# Altium footprint library SOP.PcbLib: 14 footprints
Each footprint in its own frame and in the unit in brackets; x right, y up, seen from the top. Pads: shape width x height; smd on the part's side, far side on the other; paste and mask are expansions set on the pad; w line width, h text height; cw(c..) or ccw(c..) is an arc to the next point about the centre after c.
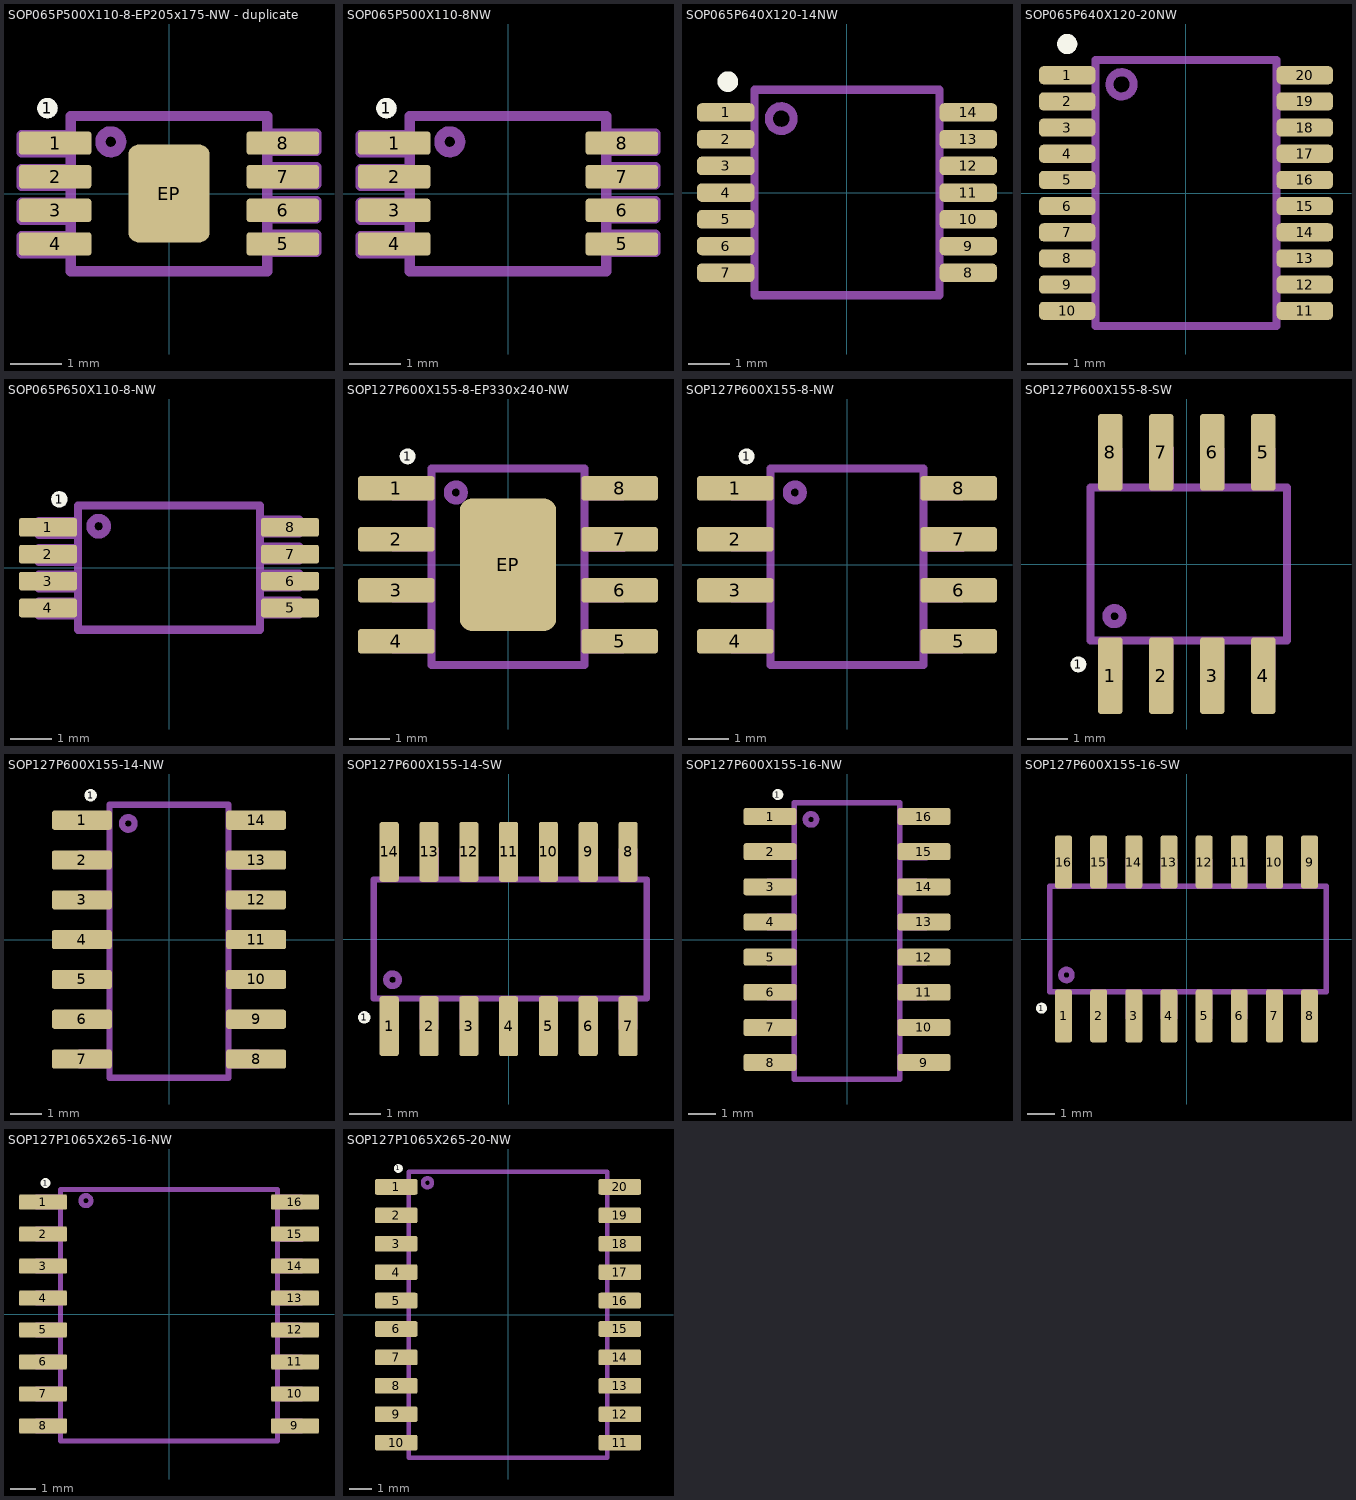
[diagram p0: the footprints below, top view; thin cyan lines are the x and y axes]

## SOP065P500X110-8-EP205x175-NW - duplicate [mm] "PHDSO-G8-I065, JEDEC  MO-187, VSSOP8 with Exposed Pad"
height 1.55
pads (10):
  round 0.4 on Top Overlay: 1(-2.35,1.65)
  rrect25% 1.4x0.45 smd: 1(-2.2,0.975) 2(-2.2,0.325) 3(-2.2,-0.325) 4(-2.2,-0.975) 5(2.2,-0.975) 6(2.2,-0.325) 7(2.2,0.325) 8(2.2,0.975)
  rrect25% 1.57x1.89 smd: EP(0,0)
Top Assembly:
  circle w0.2: c-1.125,1 r0.2
  lines w0.2: -1.9,-1.155 -2.85,-1.155 -2.85,-0.825 -1.9,-0.825 ; -1.9,-0.505 -2.85,-0.505 -2.85,-0.175 -1.9,-0.175 ; -1.9,0.145 -2.85,0.145 -2.85,0.475 -1.9,0.475 ; -1.9,0.795 -2.85,0.795 -2.85,1.125 -1.9,1.125 ; 1.9,-1.125 2.85,-1.125 2.85,-0.795 1.9,-0.795 ; 1.9,-0.475 2.85,-0.475 2.85,-0.145 1.9,-0.145 ; 1.9,0.175 2.85,0.175 2.85,0.505 1.9,0.505 ; 1.9,0.825 2.85,0.825 2.85,1.155 1.9,1.155 ; -1.9,-1.5 1.9,-1.5 1.9,1.5 -1.9,1.5 -1.9,-1.5
3D body "SOP065P500X120-9-TH205X175.stp": height 1.1, standoff 0, extent -2.535,-1.475 2.535,1.475

## SOP065P500X110-8NW [mm] "PHDSO-G8-I065, JEDEC  MO-187, VSSOP8"
height 1.55
pads (9):
  round 0.4 on Top Overlay: 1(-2.35,1.65)
  rrect25% 1.4x0.45 smd: 1(-2.2,0.975) 2(-2.2,0.325) 3(-2.2,-0.325) 4(-2.2,-0.975) 5(2.2,-0.975) 6(2.2,-0.325) 7(2.2,0.325) 8(2.2,0.975)
Top Assembly:
  circle w0.2: c-1.125,1 r0.2
  lines w0.2: -1.9,-1.155 -2.85,-1.155 -2.85,-0.825 -1.9,-0.825 ; -1.9,-0.505 -2.85,-0.505 -2.85,-0.175 -1.9,-0.175 ; -1.9,0.145 -2.85,0.145 -2.85,0.475 -1.9,0.475 ; -1.9,0.795 -2.85,0.795 -2.85,1.125 -1.9,1.125 ; 1.9,-1.125 2.85,-1.125 2.85,-0.795 1.9,-0.795 ; 1.9,-0.475 2.85,-0.475 2.85,-0.145 1.9,-0.145 ; 1.9,0.175 2.85,0.175 2.85,0.505 1.9,0.505 ; 1.9,0.825 2.85,0.825 2.85,1.155 1.9,1.155 ; -1.9,-1.5 1.9,-1.5 1.9,1.5 -1.9,1.5 -1.9,-1.5
3D body "SOP065P500X110-8-VSSOP-8.stp": height 1.1, standoff 0, extent -2.535,-1.475 2.535,1.475

## SOP065P640X120-14NW [mm] "TSOP, 14-Leads, Body 5.00x4.40mm, Pitch 0.65mm, IPC Medium Density"
height 1.2
pads (14):
  rrect50% 1.4x0.45 smd: 1(-2.95,1.95) 2(-2.95,1.3) 3(-2.95,0.65) 4(-2.95,0) 5(-2.95,-0.65) 6(-2.95,-1.3) 7(-2.95,-1.95) 8(2.95,-1.95) 9(2.95,-1.3) 10(2.95,-0.65) 11(2.95,0) 12(2.95,0.65) 13(2.95,1.3) 14(2.95,1.95)
Top Overlay:
  circle w0.25: c-2.9,2.7 r0.125
Top Assembly:
  circle w0.2: c-1.6,1.8 r0.3
  lines w0.2: -2.25,-2.5 -2.25,2.5 2.25,2.5 2.25,-2.5 -2.25,-2.5
3D body "SOP065P640X120-14-TSSOP-14.stp": height 1.1, standoff 0, extent -3.219,-2.45 3.219,2.45

## SOP065P640X120-20NW [mm] "TSOP, 20-Leads, Body 6.50x4.40mm, Pitch 0.65mm, IPC Medium Density"
height 1.2
pads (20):
  rrect50% 1.4x0.45 smd: 1(-2.95,2.925) 2(-2.95,2.275) 3(-2.95,1.625) 4(-2.95,0.975) 5(-2.95,0.325) 6(-2.95,-0.325) 7(-2.95,-0.975) 8(-2.95,-1.625) 9(-2.95,-2.275) 10(-2.95,-2.925) 11(2.95,-2.925) 12(2.95,-2.275) 13(2.95,-1.625) 14(2.95,-0.975) 15(2.95,-0.325) 16(2.95,0.325) 17(2.95,0.975) 18(2.95,1.625) 19(2.95,2.275) 20(2.95,2.925)
Top Overlay:
  circle w0.25: c-2.95,3.7 r0.125
Top Assembly:
  circle w0.2: c-1.6,2.7 r0.3
  lines w0.2: -2.25,-3.3 -2.25,3.3 2.25,3.3 2.25,-3.3 -2.25,-3.3
3D body "SOP065P640X120-20NW.step": height 1.2, standoff 0, extent -3.2,-3.3 3.2,3.3

## SOP065P650X110-8-NW [mm] "TSSOP-8 / P-TSSOP-8-800"
height 1.1
pads (9):
  rrect25% 1.4x0.45 smd: 1(-2.925,0.975) 2(-2.925,0.325) 3(-2.925,-0.325) 4(-2.925,-0.975) 5(2.925,-0.975) 6(2.925,-0.325) 7(2.925,0.325) 8(2.925,0.975)
  round 0.4 on Top Overlay: 1(-2.65,1.65)
Top Assembly:
  circle w0.2: c-1.7,1 r0.2
  lines w0.2: -2.2,-1.155 -3.15,-1.155 -3.15,-0.825 -2.2,-0.825 ; -2.2,-0.505 -3.15,-0.505 -3.15,-0.175 -2.2,-0.175 ; -2.2,0.145 -3.15,0.145 -3.15,0.475 -2.2,0.475 ; -2.2,0.795 -3.15,0.795 -3.15,1.125 -2.2,1.125 ; 2.2,-1.125 3.15,-1.125 3.15,-0.795 2.2,-0.795 ; 2.2,-0.475 3.15,-0.475 3.15,-0.145 2.2,-0.145 ; 2.2,0.175 3.15,0.175 3.15,0.505 2.2,0.505 ; 2.2,0.825 3.15,0.825 3.15,1.155 2.2,1.155 ; -2.2,-1.5 -2.2,1.5 2.2,1.5 2.2,-1.5 -2.2,-1.5
3D body "SOP065P650X110-8-TSSOP-8.stp": height 1.1, standoff 0, extent -3.269,-1.475 3.269,1.475

## SOP127P600X155-8-EP330x240-NW [mm] "PHDSO-G8-I127, JEDEC MS-012AA, SOIC8 with Exposed Pad"
height 1.55
pads (10):
  rrect25% 1.91x0.61 smd: 1(-2.78,1.905) 2(-2.78,0.635) 3(-2.78,-0.635) 4(-2.78,-1.905) 5(2.78,-1.905) 6(2.78,-0.635) 7(2.78,0.635) 8(2.78,1.905)
  round 0.4 on Top Overlay: 1(-2.5,2.7)
  rrect25% 2.4x3.3 smd: EP(0,0)
Top Assembly:
  circle w0.2: c-1.3,1.8 r0.2
  lines w0.2: -1.9,-2.105 -2.85,-2.105 -2.85,-1.705 -1.9,-1.705 ; -1.9,-0.835 -2.85,-0.835 -2.85,-0.435 -1.9,-0.435 ; -1.9,0.435 -2.85,0.435 -2.85,0.835 -1.9,0.835 ; -1.9,1.705 -2.85,1.705 -2.85,2.105 -1.9,2.105 ; 1.9,-2.105 2.85,-2.105 2.85,-1.705 1.9,-1.705 ; 1.9,-0.835 2.85,-0.835 2.85,-0.435 1.9,-0.435 ; 1.9,1.705 2.85,1.705 2.85,2.105 1.9,2.105 ; 1.922,0.422 2.872,0.422 2.872,0.822 1.922,0.822 ; -1.9,-2.5 -1.9,2.4 1.9,2.4 1.9,-2.5 -1.9,-2.5
3D body "User Library-so8-3.STEP": height 1.7, standoff 0, extent -3,-2.45 3,2.45

## SOP127P600X155-8-NW [mm] "PHDSO-G8-I127, JEDEC MS-012AA, SOIC8"
height 1.55
pads (9):
  rrect25% 1.91x0.61 smd: 1(-2.78,1.905) 2(-2.78,0.635) 3(-2.78,-0.635) 4(-2.78,-1.905) 5(2.78,-1.905) 6(2.78,-0.635) 7(2.78,0.635) 8(2.78,1.905)
  round 0.4 on Top Overlay: 1(-2.5,2.7)
Top Assembly:
  circle w0.2: c-1.3,1.8 r0.2
  lines w0.2: -1.9,-2.105 -2.85,-2.105 -2.85,-1.705 -1.9,-1.705 ; -1.9,-0.835 -2.85,-0.835 -2.85,-0.435 -1.9,-0.435 ; -1.9,0.435 -2.85,0.435 -2.85,0.835 -1.9,0.835 ; -1.9,1.705 -2.85,1.705 -2.85,2.105 -1.9,2.105 ; 1.9,-2.105 2.85,-2.105 2.85,-1.705 1.9,-1.705 ; 1.9,-0.835 2.85,-0.835 2.85,-0.435 1.9,-0.435 ; 1.9,1.705 2.85,1.705 2.85,2.105 1.9,2.105 ; 1.922,0.422 2.872,0.422 2.872,0.822 1.922,0.822 ; -1.9,-2.5 -1.9,2.4 1.9,2.4 1.9,-2.5 -1.9,-2.5
3D body "SOP127P600X155-8-SOIC-8.stp": height 1.45, standoff 0, extent -3,-2.405 3,2.405

## SOP127P600X155-8-SW [mm] "PHDSO-G8-I127, JEDEC MS-012AA, SOIC8"
height 1.55
pads (9):
  round 0.4 on Top Overlay: 1(-2.7,-2.5)
  rrect25% 0.61x1.91 smd: 1(-1.905,-2.78) 2(-0.635,-2.78) 3(0.635,-2.78) 4(1.905,-2.78) 5(1.905,2.78) 6(0.635,2.78) 7(-0.635,2.78) 8(-1.905,2.78)
Top Assembly:
  circle w0.2: c-1.8,-1.3 r0.2
  lines w0.2: -2.105,-1.9 -2.105,-2.85 -1.705,-2.85 -1.705,-1.9 ; -2.105,1.9 -2.105,2.85 -1.705,2.85 -1.705,1.9 ; -0.835,-1.9 -0.835,-2.85 -0.435,-2.85 -0.435,-1.9 ; -0.822,1.922 -0.822,2.872 -0.422,2.872 -0.422,1.922 ; 0.435,-1.9 0.435,-2.85 0.835,-2.85 0.835,-1.9 ; 0.435,1.9 0.435,2.85 0.835,2.85 0.835,1.9 ; 1.705,-1.9 1.705,-2.85 2.105,-2.85 2.105,-1.9 ; 1.705,1.9 1.705,2.85 2.105,2.85 2.105,1.9 ; -2.4,-1.9 2.5,-1.9 2.5,1.9 -2.4,1.9 -2.4,-1.9
3D body "SOP127P600X155-8-SOIC-8.stp": height 1.45, standoff 0, extent -2.405,-3 2.405,3

## SOP127P600X155-14-NW [mm] "PHDSO-G8-I127, JEDEC MS-012AA, SOIC8"
height 1.55
pads (15):
  rrect25% 1.91x0.61 smd: 1(-2.78,3.81) 2(-2.78,2.54) 3(-2.78,1.27) 4(-2.78,0) 5(-2.78,-1.27) 6(-2.78,-2.54) 7(-2.78,-3.81) 8(2.78,-3.81) 9(2.78,-2.54) 10(2.78,-1.27) 11(2.78,0) 12(2.78,1.27) 13(2.78,2.54) 14(2.78,3.81)
  round 0.4 on Top Overlay: 1(-2.5,4.605)
Top Assembly:
  circle w0.2: c-1.3,3.705 r0.2
  lines w0.2: -1.9,-4.01 -2.85,-4.01 -2.85,-3.61 -1.9,-3.61 ; -1.9,-2.74 -2.85,-2.74 -2.85,-2.34 -1.9,-2.34 ; -1.9,-1.47 -2.85,-1.47 -2.85,-1.07 -1.9,-1.07 ; -1.9,-0.2 -2.85,-0.2 -2.85,0.2 -1.9,0.2 ; -1.9,1.07 -2.85,1.07 -2.85,1.47 -1.9,1.47 ; -1.9,2.34 -2.85,2.34 -2.85,2.74 -1.9,2.74 ; -1.9,3.61 -2.85,3.61 -2.85,4.01 -1.9,4.01 ; 1.9,-4.01 2.85,-4.01 2.85,-3.61 1.9,-3.61 ; 1.9,-2.74 2.85,-2.74 2.85,-2.34 1.9,-2.34 ; 1.9,-0.2 2.85,-0.2 2.85,0.2 1.9,0.2 ; 1.9,1.07 2.85,1.07 2.85,1.47 1.9,1.47 ; 1.9,3.61 2.85,3.61 2.85,4.01 1.9,4.01 ; 1.922,-1.483 2.872,-1.483 2.872,-1.083 1.922,-1.083 ; 1.922,2.327 2.872,2.327 2.872,2.727 1.922,2.727 ; -1.9,-4.405 -1.9,4.305 1.9,4.305 1.9,-4.405 -1.9,-4.405
3D body "SOP127P600X155-14-SOIC-14.stp": height 1.6, standoff 0, extent -3,-4.31 3,4.31

## SOP127P600X155-14-SW [mm] "PHDSO-G8-I127, JEDEC MS-012AA, SOIC8"
height 1.55
pads (15):
  round 0.4 on Top Overlay: 1(-4.605,-2.5)
  rrect25% 0.61x1.91 smd: 1(-3.81,-2.78) 2(-2.54,-2.78) 3(-1.27,-2.78) 4(0,-2.78) 5(1.27,-2.78) 6(2.54,-2.78) 7(3.81,-2.78) 8(3.81,2.78) 9(2.54,2.78) 10(1.27,2.78) 11(0,2.78) 12(-1.27,2.78) 13(-2.54,2.78) 14(-3.81,2.78)
Top Assembly:
  circle w0.2: c-3.705,-1.3 r0.2
  lines w0.2: -4.01,-1.9 -4.01,-2.85 -3.61,-2.85 -3.61,-1.9 ; -4.01,1.9 -4.01,2.85 -3.61,2.85 -3.61,1.9 ; -2.74,-1.9 -2.74,-2.85 -2.34,-2.85 -2.34,-1.9 ; -2.727,1.922 -2.727,2.872 -2.327,2.872 -2.327,1.922 ; -1.47,-1.9 -1.47,-2.85 -1.07,-2.85 -1.07,-1.9 ; -1.47,1.9 -1.47,2.85 -1.07,2.85 -1.07,1.9 ; -0.2,-1.9 -0.2,-2.85 0.2,-2.85 0.2,-1.9 ; -0.2,1.9 -0.2,2.85 0.2,2.85 0.2,1.9 ; 1.07,-1.9 1.07,-2.85 1.47,-2.85 1.47,-1.9 ; 1.083,1.922 1.083,2.872 1.483,2.872 1.483,1.922 ; 2.34,-1.9 2.34,-2.85 2.74,-2.85 2.74,-1.9 ; 2.34,1.9 2.34,2.85 2.74,2.85 2.74,1.9 ; 3.61,-1.9 3.61,-2.85 4.01,-2.85 4.01,-1.9 ; 3.61,1.9 3.61,2.85 4.01,2.85 4.01,1.9 ; -4.305,-1.9 -4.305,1.9 4.405,1.9 4.405,-1.9 -4.305,-1.9
3D body "SOP127P600X155-14-SOIC-14.stp": height 1.6, standoff 0, extent -4.31,-3 4.31,3

## SOP127P600X155-16-NW [mm] "PHDSO-G8-I127, JEDEC MS-012AA, SOIC8"
height 1.55
pads (17):
  rrect25% 1.91x0.61 smd: 1(-2.78,4.445) 2(-2.78,3.175) 3(-2.78,1.905) 4(-2.78,0.635) 5(-2.78,-0.635) 6(-2.78,-1.905) 7(-2.78,-3.175) 8(-2.78,-4.445) 9(2.78,-4.445) 10(2.78,-3.175) 11(2.78,-1.905) 12(2.78,-0.635) 13(2.78,0.635) 14(2.78,1.905) 15(2.78,3.175) 16(2.78,4.445)
  round 0.4 on Top Overlay: 1(-2.5,5.24)
Top Assembly:
  circle w0.2: c-1.3,4.34 r0.2
  lines w0.2: -1.9,-4.645 -2.85,-4.645 -2.85,-4.245 -1.9,-4.245 ; -1.9,-3.375 -2.85,-3.375 -2.85,-2.975 -1.9,-2.975 ; -1.9,-2.105 -2.85,-2.105 -2.85,-1.705 -1.9,-1.705 ; -1.9,-0.835 -2.85,-0.835 -2.85,-0.435 -1.9,-0.435 ; -1.9,0.435 -2.85,0.435 -2.85,0.835 -1.9,0.835 ; -1.9,1.705 -2.85,1.705 -2.85,2.105 -1.9,2.105 ; -1.9,2.975 -2.85,2.975 -2.85,3.375 -1.9,3.375 ; -1.9,4.245 -2.85,4.245 -2.85,4.645 -1.9,4.645 ; 1.9,-4.645 2.85,-4.645 2.85,-4.245 1.9,-4.245 ; 1.9,-3.375 2.85,-3.375 2.85,-2.975 1.9,-2.975 ; 1.9,-2.105 2.85,-2.105 2.85,-1.705 1.9,-1.705 ; 1.9,-0.835 2.85,-0.835 2.85,-0.435 1.9,-0.435 ; 1.9,0.435 2.85,0.435 2.85,0.835 1.9,0.835 ; 1.9,1.705 2.85,1.705 2.85,2.105 1.9,2.105 ; 1.9,4.245 2.85,4.245 2.85,4.645 1.9,4.645 ; 1.922,2.962 2.872,2.962 2.872,3.362 1.922,3.362 ; -1.9,-5.04 1.9,-5.04 1.9,4.94 -1.9,4.94 -1.9,-5.04
3D body "SOP127P600X155-16-SOIC-16.stp": height 1.6, standoff 0, extent -3,-4.945 3,4.945

## SOP127P600X155-16-SW [mm] "PHDSO-G8-I127, JEDEC MS-012AA, SOIC8"
height 1.55
pads (17):
  round 0.4 on Top Overlay: 1(-5.24,-2.5)
  rrect25% 0.61x1.91 smd: 1(-4.445,-2.78) 2(-3.175,-2.78) 3(-1.905,-2.78) 4(-0.635,-2.78) 5(0.635,-2.78) 6(1.905,-2.78) 7(3.175,-2.78) 8(4.445,-2.78) 9(4.445,2.78) 10(3.175,2.78) 11(1.905,2.78) 12(0.635,2.78) 13(-0.635,2.78) 14(-1.905,2.78) 15(-3.175,2.78) 16(-4.445,2.78)
Top Assembly:
  circle w0.2: c-4.34,-1.3 r0.2
  lines w0.2: -4.645,-1.9 -4.645,-2.85 -4.245,-2.85 -4.245,-1.9 ; -4.645,1.9 -4.645,2.85 -4.245,2.85 -4.245,1.9 ; -3.375,-1.9 -3.375,-2.85 -2.975,-2.85 -2.975,-1.9 ; -3.362,1.922 -3.362,2.872 -2.962,2.872 -2.962,1.922 ; -2.105,-1.9 -2.105,-2.85 -1.705,-2.85 -1.705,-1.9 ; -2.105,1.9 -2.105,2.85 -1.705,2.85 -1.705,1.9 ; -0.835,-1.9 -0.835,-2.85 -0.435,-2.85 -0.435,-1.9 ; -0.835,1.9 -0.835,2.85 -0.435,2.85 -0.435,1.9 ; 0.435,-1.9 0.435,-2.85 0.835,-2.85 0.835,-1.9 ; 0.435,1.9 0.435,2.85 0.835,2.85 0.835,1.9 ; 1.705,-1.9 1.705,-2.85 2.105,-2.85 2.105,-1.9 ; 1.705,1.9 1.705,2.85 2.105,2.85 2.105,1.9 ; 2.975,-1.9 2.975,-2.85 3.375,-2.85 3.375,-1.9 ; 2.975,1.9 2.975,2.85 3.375,2.85 3.375,1.9 ; 4.245,-1.9 4.245,-2.85 4.645,-2.85 4.645,-1.9 ; 4.245,1.9 4.245,2.85 4.645,2.85 4.645,1.9 ; -4.94,-1.9 5.04,-1.9 5.04,1.9 -4.94,1.9 -4.94,-1.9
3D body "SOP127P600X155-16-SOIC-16.stp": height 1.6, standoff 0, extent -4.945,-3 4.945,3

## SOP127P1065X265-16-NW [mm] "JEDEC MS-013-AC, SOIC20_W"
height 1.55
pads (17):
  rrect25% 1.91x0.61 smd: 1(-5,4.445) 2(-5,3.175) 3(-5,1.905) 4(-5,0.635) 5(-5,-0.635) 6(-5,-1.905) 7(-5,-3.175) 8(-5,-4.445) 9(5,-4.445) 10(5,-3.175) 11(5,-1.905) 12(5,-0.635) 13(5,0.635) 14(5,1.905) 15(5,3.175) 16(5,4.445)
  round 0.4 on Top Overlay: 1(-4.9,5.2)
Top Assembly:
  circle w0.2: c-3.3,4.5 r0.2
  lines w0.2: -4.3,-4.645 -5.25,-4.645 -5.25,-4.245 -4.3,-4.245 ; -4.3,-3.375 -5.25,-3.375 -5.25,-2.975 -4.3,-2.975 ; -4.3,-2.105 -5.25,-2.105 -5.25,-1.705 -4.3,-1.705 ; -4.3,-0.835 -5.25,-0.835 -5.25,-0.435 -4.3,-0.435 ; -4.3,0.435 -5.25,0.435 -5.25,0.835 -4.3,0.835 ; -4.3,1.705 -5.25,1.705 -5.25,2.105 -4.3,2.105 ; -4.3,2.975 -5.25,2.975 -5.25,3.375 -4.3,3.375 ; -4.3,4.245 -5.25,4.245 -5.25,4.645 -4.3,4.645 ; 4.3,-4.645 5.25,-4.645 5.25,-4.245 4.3,-4.245 ; 4.3,-3.375 5.25,-3.375 5.25,-2.975 4.3,-2.975 ; 4.3,-2.105 5.25,-2.105 5.25,-1.705 4.3,-1.705 ; 4.3,-0.835 5.25,-0.835 5.25,-0.435 4.3,-0.435 ; 4.3,0.435 5.25,0.435 5.25,0.835 4.3,0.835 ; 4.3,1.705 5.25,1.705 5.25,2.105 4.3,2.105 ; 4.3,4.245 5.25,4.245 5.25,4.645 4.3,4.645 ; 4.322,2.962 5.272,2.962 5.272,3.362 4.322,3.362 ; -4.3,-5.04 -4.3,4.94 4.3,4.94 4.3,-5.04 -4.3,-5.04
3D body "SOP127P1065X2650-16-SOIC_W-16.stp": height 2.65, standoff -0.01, extent -5.325,-5.16 5.325,5.16

## SOP127P1065X265-20-NW [mm] "JEDEC MS-013-AC, SOIC20_W"
height 2.35
pads (21):
  rrect25% 1.91x0.7 smd: 1(-5,5.715) 2(-5,4.445) 3(-5,3.175) 4(-5,1.905) 5(-5,0.635) 6(-5,-0.635) 7(-5,-1.905) 8(-5,-3.175) 9(-5,-4.445) 10(-5,-5.715) 11(5,-5.715) 12(5,-4.445) 13(5,-3.175) 14(5,-1.905) 15(5,-0.635) 16(5,0.635) 17(5,1.905) 18(5,3.175) 19(5,4.445) 20(5,5.715)
  round 0.4 on Top Overlay: 1(-4.9,6.54)
Top Assembly:
  circle w0.2: c-3.6,5.9 r0.2
  lines w0.2: -4.44,-5.915 -5.39,-5.915 -5.39,-5.515 -4.44,-5.515 ; -4.44,-4.645 -5.39,-4.645 -5.39,-4.245 -4.44,-4.245 ; -4.44,-3.375 -5.39,-3.375 -5.39,-2.975 -4.44,-2.975 ; -4.44,-2.105 -5.39,-2.105 -5.39,-1.705 -4.44,-1.705 ; -4.44,-0.835 -5.39,-0.835 -5.39,-0.435 -4.44,-0.435 ; -4.44,0.435 -5.39,0.435 -5.39,0.835 -4.44,0.835 ; -4.44,1.705 -5.39,1.705 -5.39,2.105 -4.44,2.105 ; -4.44,2.975 -5.39,2.975 -5.39,3.375 -4.44,3.375 ; -4.44,4.245 -5.39,4.245 -5.39,4.645 -4.44,4.645 ; -4.44,5.515 -5.39,5.515 -5.39,5.915 -4.44,5.915 ; 4.44,-5.915 5.39,-5.915 5.39,-5.515 4.44,-5.515 ; 4.44,-4.645 5.39,-4.645 5.39,-4.245 4.44,-4.245 ; 4.44,-3.375 5.39,-3.375 5.39,-2.975 4.44,-2.975 ; 4.44,-2.105 5.39,-2.105 5.39,-1.705 4.44,-1.705 ; 4.44,-0.835 5.39,-0.835 5.39,-0.435 4.44,-0.435 ; 4.44,0.435 5.39,0.435 5.39,0.835 4.44,0.835 ; 4.44,1.705 5.39,1.705 5.39,2.105 4.44,2.105 ; 4.44,2.975 5.39,2.975 5.39,3.375 4.44,3.375 ; 4.44,4.245 5.39,4.245 5.39,4.645 4.44,4.645 ; 4.44,5.515 5.39,5.515 5.39,5.915 4.44,5.915 ; -4.44,-6.4 -4.44,6.4 4.44,6.4 4.44,-6.4 -4.44,-6.4
3D body "SOP127P1065X2650-20-SOIC_W-20.stp": height 2.65, standoff -0.01, extent -5.325,-6.43 5.325,6.43